# EAGLE library part 658101003064 (library WR-BTB)
WR-BTB 1.00 mm Female Vertical SMT 10.30 Receptacle KIND PROPERTIES: Pitch 1 mm Quality Class 30 Mating cycles MATERIAL PROPERTIES: Insulator Material LCP Insulator Flammability Rating UL94 V-0 Insulator Color Ivory Contact Material Brass Contact Plating Selective Gold Contact Type Stamped GENERAL PROPERTIES: Operating Temperature -55 °C up to +85 °C Compliance Lead free / RoHS ELECTRICAL PROPERTIES: Rated Current [1] 1 A Working Voltage 100 V (AC) Withstanding Voltage 250 V (AC) Contact Resistance 30 mΩ Insulation Resistance 1000 MΩ PACKAGING PROPERTIES: Packaging Tape and Reel with Cap <https://www.we-online.com/catalog/media/o97285v209%20Family_WR-BTB_658101003064.jpg> Details see: https://www.we-online.com/katalog/en/em/BTB_1_00_FEMALE_SMT_VERTICAL_RECEPTACLE_H10_30_658101003XXX Updated by Yingchun,Shan 2019-10-15 2019 (C) Würth Elektronik
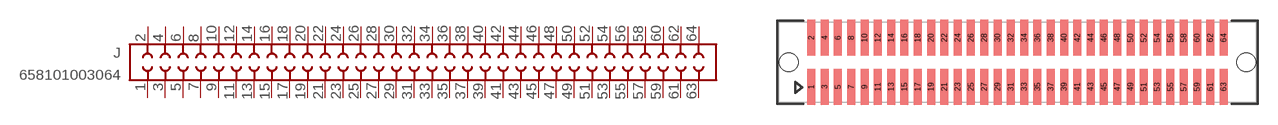
[diagram p2: symbol with the pads of 658101003064; footprint 658101003064]

Designator prefix J

## 658101003064 (DATASHEET-URL: https://www.we-online.com/catalog/datasheet/658101003064.pdf; GENDER: Female Receptacle; IR: 1A; PACKAGING: Tape and Reel with Cap; PART-NUMBER: 658101003064; PINS: 64; TYPE: Vertical; VALUE: 658101003064)  [658101003064]
1  1  pas
2  2  pas
3  3  pas
4  4  pas
5  5  pas
6  6  pas
7  7  pas
8  8  pas
9  9  pas
10  10  pas
11  11  pas
12  12  pas
13  13  pas
14  14  pas
15  15  pas
16  16  pas
17  17  pas
18  18  pas
19  19  pas
20  20  pas
21  21  pas
22  22  pas
23  23  pas
24  24  pas
25  25  pas
26  26  pas
27  27  pas
28  28  pas
29  29  pas
30  30  pas
31  31  pas
32  32  pas
33  33  pas
34  34  pas
35  35  pas
36  36  pas
37  37  pas
38  38  pas
39  39  pas
40  40  pas
41  41  pas
42  42  pas
43  43  pas
44  44  pas
45  45  pas
46  46  pas
47  47  pas
48  48  pas
49  49  pas
50  50  pas
51  51  pas
52  52  pas
53  53  pas
54  54  pas
55  55  pas
56  56  pas
57  57  pas
58  58  pas
59  59  pas
60  60  pas
61  61  pas
62  62  pas
63  63  pas
64  64  pas

## Footprint 658101003064 (pad centres in mm)
Con-BTB 1.00 mm Female Vertical SMT 10.30 Receptacle 64 Pins
smd 0.6 x 2.7: 1 -15.5,-1.85; 2 -15.5,1.85; 3 -14.5,-1.85; 4 -14.5,1.85; 5 -13.5,-1.85; 6 -13.5,1.85; 7 -12.5,-1.85; 8 -12.5,1.85; 9 -11.5,-1.85; 10 -11.5,1.85; 11 -10.5,-1.85; 12 -10.5,1.85; 13 -9.5,-1.85; 14 -9.5,1.85; 15 -8.5,-1.85; 16 -8.5,1.85; 17 -7.5,-1.85; 18 -7.5,1.85; 19 -6.5,-1.85; 20 -6.5,1.85; 21 -5.5,-1.85; 22 -5.5,1.85; 23 -4.5,-1.85; 24 -4.5,1.85; 25 -3.5,-1.85; 26 -3.5,1.85; 27 -2.5,-1.85; 28 -2.5,1.85; 29 -1.5,-1.85; 30 -1.5,1.85; 31 -0.5,-1.85; 32 -0.5,1.85; 33 0.5,-1.85; 34 0.5,1.85; 35 1.5,-1.85; 36 1.5,1.85; 37 2.5,-1.85; 38 2.5,1.85; 39 3.5,-1.85; 40 3.5,1.85; 41 4.5,-1.85; 42 4.5,1.85; 43 5.5,-1.85; 44 5.5,1.85; 45 6.5,-1.85; 46 6.5,1.85; 47 7.5,-1.85; 48 7.5,1.85; 49 8.5,-1.85; 50 8.5,1.85; 51 9.5,-1.85; 52 9.5,1.85; 53 10.5,-1.85; 54 10.5,1.85; 55 11.5,-1.85; 56 11.5,1.85; 57 12.5,-1.85; 58 12.5,1.85; 59 13.5,-1.85; 60 13.5,1.85; 61 14.5,-1.85; 62 14.5,1.85; 63 15.5,-1.85; 64 15.5,1.85
hole 1.4 at 17.2,0
hole 1.4 at -17.2,0